# Altium schematic symbol library MotorDriver.SchLib: 25 symbols
Pins are listed as number, name and electrical type; pins without a type are passive.

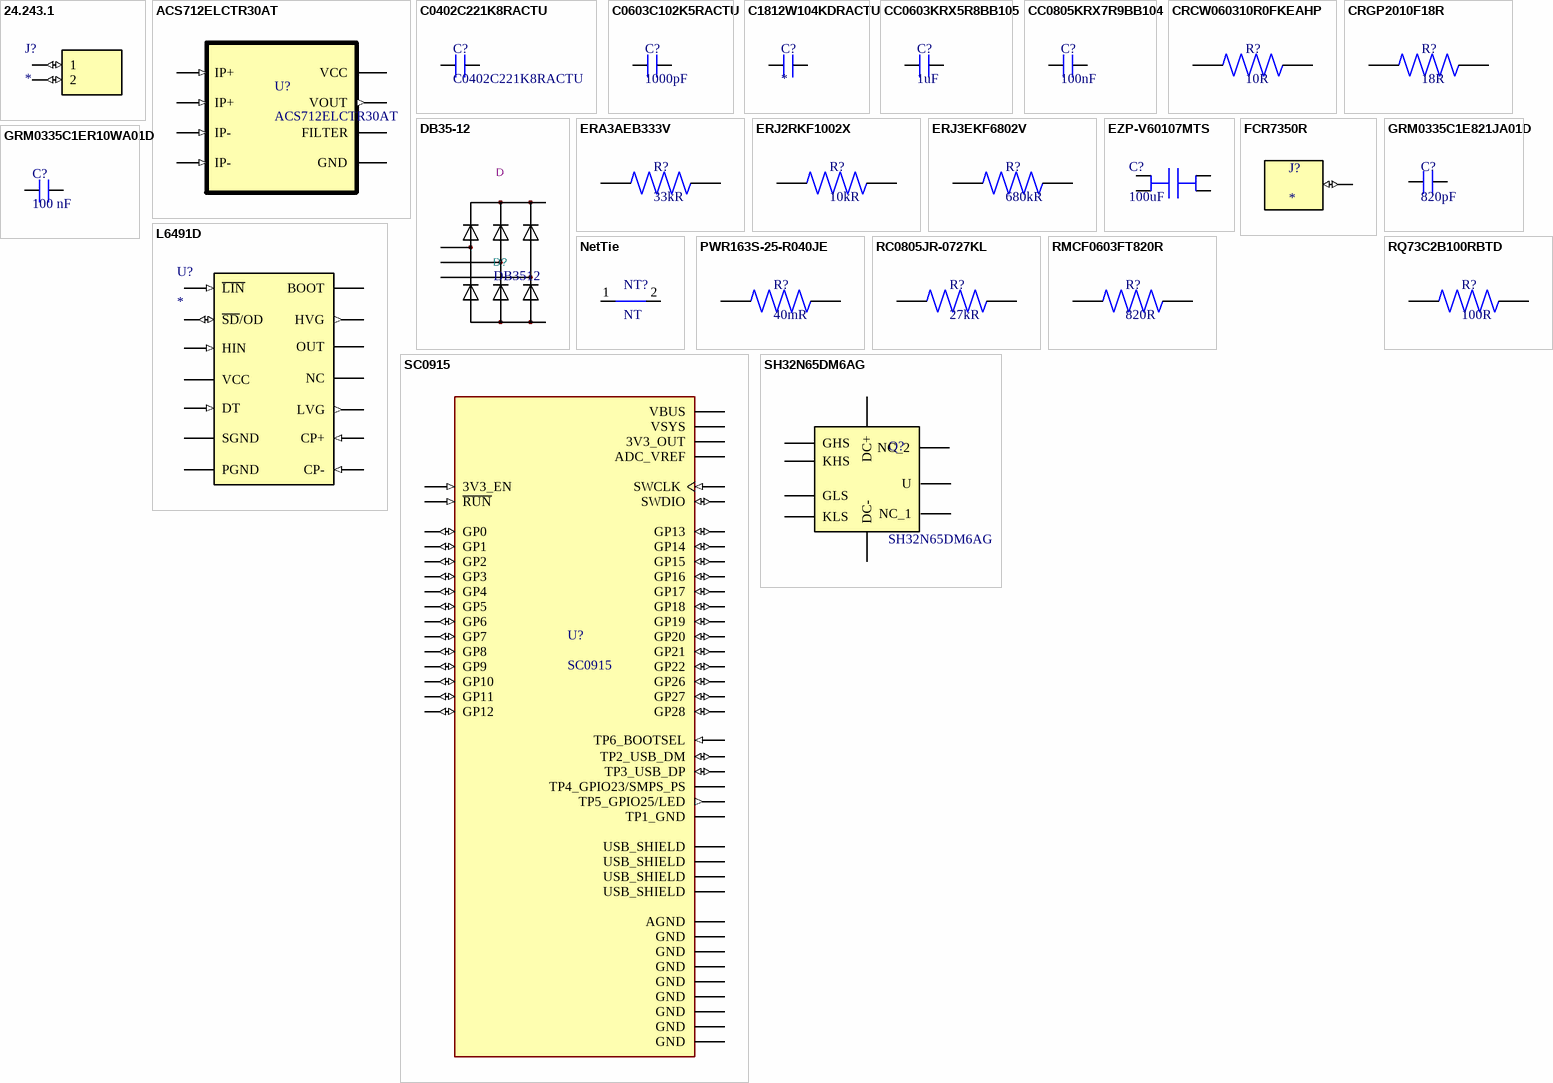
[diagram p0: symbols 24.243.1 to SH32N65DM6AG]

## 24.243.1
designator J?
Banana Socket, 20a, 4mm, Pcb, Red; MF: Multicomp; MP: 24.243.1; Check_prices: https://www.snapeda.com/parts/24.243.1/Multicomp/view-part/?ref=eda; Value: *; Availability: In Stock; Price: None; Package: None; SnapEDA_Link: https://www.snapeda.com/parts/24.243.1/Multicomp/view-part/?ref=snap
footprint 242431
pins: 1 (io), 2 (io)

## ACS712ELCTR30AT
designator U?
SENSOR CURRENT HALL 30A AC/DC; MP: ACS712ELCTR-30A-T; MF: Allegro; Price: None; Availability: In Stock; Package: SOIC-8 Allegro MicroSystems LLC; SnapEDA_Link: https://www.snapeda.com/parts/ACS712ELCTR-30A-T/Allegro+Industries/view-part/?ref=snap; Check_prices: https://www.snapeda.com/parts/ACS712ELCTR-30A-T/Allegro+Industries/view-part/?ref=eda; Value: *; Purchase-URL: https://pricing.snapeda.com/search/part/ACS712ELCTR-30A-T/?ref=eda
footprint currentsensor
pins: 1 IP+ (in), 2 IP+ (in), 3 IP- (in), 4 IP- (in), 5 GND (power), 6 FILTER, 7 VOUT (out), 8 VCC (power)

## C0402C221K8RACTU
designator C?
CAP CER 220PF 10V X7R 0402; MF: {'manufacturer': u'KEMET'}; Package: None; Price: None; Value: *; MP: C0402C221K8RACTU; Availability: Unavailable
footprint C0402C221K8RACTU
pins: 1, 2

## C0603C102K5RACTU
designator C?, comment 1000pF
CAP CER 1000PF 50V X7R 0603; MF: KEMET; MP: C0603C102K5RACTU; SnapEDA_Link: https://www.snapeda.com/parts/C0603C102K5RACTU/KEMET/view-part/319836/?ref=snap; Price: None; Availability: Unavailable; Value: *; Package: 0603 Kemet
footprint C0603C102K5RACTU
pins: 1, 2

## C1812W104KDRACTU
designator C?
CAP CER 0.1UF 1KV X7R 1812; MP: C1812W104KDRACTU; Package: None; Price: None; Value: *; Availability: Unavailable
footprint C1812W104KDRACTU
pins: 1, 2

## CC0603KRX5R8BB105
designator C?, comment 1uF
CAP CER 1UF 25V X5R 0603; MF: Yageo; MP: CC0603KRX5R8BB105; SnapEDA_Link: https://www.snapeda.com/parts/CC0603KRX5R8BB105/Yageo/view-part/1820893/?ref=snap; Package: 0603 Yageo; Price: None; Value: *; Availability: Unavailable
footprint CC0603KRX5R8BB105
pins: 1, 2

## CC0805KRX7R9BB104
designator C?, comment 100nF
CAP CER 0.1UF 50V X7R 0805; MF: Yageo; MP: CC0805KRX7R9BB104; Value: *; Availability: Unavailable; SnapEDA_Link: https://www.snapeda.com/parts/CC0805KRX7R9BB104/Yageo/view-part/105548/?ref=snap; Package: 0805 Yageo; Price: None
footprint CC0805KRX7R9BB104
pins: 1, 2

## CRCW060310R0FKEAHP
designator R?, comment 10R
RES SMD 10 OHM 1% 1/3W 0603; MP: CRCW060310R0FKEAHP; MF: Vishay Dale; Digi-Key_Part_Number: 541-10.0SCT-ND; Package: 1608 Vishay; SnapEDA_Link: https://www.snapeda.com/parts/CRCW060310R0FKEAHP/Vishay%20Dale/view-part/132114/?ref=snap; DigiKey-Purchase-URL: https://snapeda.com/shop?store=DigiKey&id=132114; Value: *
footprint CRCW060310R0FKEAHP
pins: 1, 2

## CRGP2010F18R
designator R?, comment 18R
RES 18 OHM 1% 1.25W 2010; MP: CRGP2010F18R; Package: None; Price: None; Value: *; Availability: Unavailable
footprint CRGP2010F18R
pins: 1, 2

## DB35-12
designator D?, comment DB3512  Reference: D
BRIDGE RECT 3P 1.2KV 35A DB-35; ki_keywords: Bridge 3 phase; ki_description: Bridge_3_phase; Datasheet: https://diotec.com/de/produktliste/B3.html
footprint 3PhaseBridge
pins: 1, 2, 3, 4 +, 5 -

## ERA3AEB333V
designator R?, comment 33kR
RES SMD 33K OHM 0.1% 1/10W 0603; MP: ERA3AEB333V; Package: None; Price: None; Availability: Unavailable; Value: *
footprint ERA-3AEB333V
pins: 1, 2

## ERJ2RKF1002X
designator R?, comment 10kR
RES SMD 10K OHM 1% 1/10W 0402; MF: Panasonic; MP: ERJ-2RKF1002X; Package: 1005-2 Panasonic; Price: None; Check_prices: https://www.snapeda.com/parts/ERJ-2RKF1002X/Panasonic%20Electronic%20Components/view-part/78636/?ref=eda; Value: *; SnapEDA_Link: https://www.snapeda.com/parts/ERJ-2RKF1002X/Panasonic%20Electronic%20Components/view-part/78636/?ref=snap; Availability: In Stock
footprint RES_ERJ2RKF1002X
pins: 1, 2

## ERJ3EKF6802V
designator R?, comment 680kR
RES SMD 68K OHM 1% 1/10W 0603; MP: ERJ3EKF6802V; Value: *; Availability: Unavailable; Price: None; Package: None
footprint ERJ-3EKF6802V
pins: 1, 2

## EZP-V60107MTS
designator C?, comment 100uF
CAP FILM 100UF 10% 600V RADIAL; Manufacturer_Name: Panasonic; Manufacturer_Part_Number: EZP-V60107MTS; Datasheet Link: http://industrial.panasonic.com/cdbs/www-data/pdf/RDL0000/RDL0000C251.pdf; Height: 52.5mm; Mouser Part Number: 667-EZP-V60107MTS; Mouser Price/Stock: https://www.mouser.co.uk/ProductDetail/Panasonic/EZP-V60107MTS?qs=OlC7AqGiEDk7%2FzfxM6wGiA%3D%3D
footprint EZPV60107MTS
pins: 1, 2, 3, 4

## FCR7350R
designator J?
Banana Jack Connector Standard Banana Solder Red; MF: Cliff; MP: FCR7350R; SnapEDA_Link: https://www.snapeda.com/parts/FCR7350R/Cliff+Electronics/view-part/?ref=snap; Package: None; Value: *; Check_prices: https://www.snapeda.com/parts/FCR7350R/Cliff+Electronics/view-part/?ref=eda
footprint FCR7350
pins: P$1 (io)

## GRM0335C1E821JA01D
designator C?, comment 820pF
CAP CER 820PF 25V C0G/NP0 0201; MF: Murata Electronics; MP: GRM0335C1E821JA01D; SnapEDA_Link: https://www.snapeda.com/parts/GRM0335C1E821JA01D/Murata+Electronics+North+America/view-part/?ref=snap; Package: 0603 Murata; Value: *; Check_prices: https://www.snapeda.com/parts/GRM0335C1E821JA01D/Murata+Electronics+North+America/view-part/?ref=eda
footprint GRM0335C1E821JA01D
pins: 1, 2

## GRM0335C1ER10WA01D
designator C?, comment 100 nF
CAP CER 0.1PF 25V C0G/NP0 0201; MP: GRM0335C1ER10WA01D; Package: None; Price: None; Availability: Unavailable; Value: *
footprint GRM0335C1ER10WA01D
pins: 1, 2

## L6491D
designator U?
IC GATE DRVR HALF-BRIDGE 14SO; Manufacturer_Name: STMicroelectronics; Manufacturer_Part_Number: L6491D; Datasheet Link: http://www.mouser.com/datasheet/2/389/l6491-974060.pdf; Height: 1.75mm; Mouser Part Number: 511-L6491D; Mouser Price/Stock: https://www.mouser.co.uk/ProductDetail/STMicroelectronics/L6491D?qs=WHlX%252B%252B9%2FRwCiXa20eeUAEg%3D%3D; Arrow Part Number: L6491D; Arrow Price/Stock: https://www.arrow.com/en/products/l6491d/stmicroelectronics?region=nac
footprint SOIC127P600X175-14N
pins: 1 ~{LIN} (in), 2 ~{SD}/OD (io), 3 HIN (in), 4 VCC (power), 5 DT (in), 6 SGND (power), 7 PGND (power), 8 LVG (out), 9 CP- (in), 10 CP+ (in), 11 NC, 12 OUT (power), 13 HVG (out), 14 BOOT (power)

## NetTie
designator NT?, comment NT  (net tie)
Net Tie
footprint NetTie
pins: 1, 2

## PWR163S-25-R040JE
designator R?, comment 40mR
RES 0.04 OHM 5% 25W DPAK; Manufacturer: Bourns; MP: PWR163S-25-R040JE; Package: None; Price: None; Value: *; Availability: Unavailable; Supplier: Arrow Electronics; Supplier Part Number: PWR163S-25-R040JE; Manufacturer Part Number: PWR163S-25-R040JE; RoHS: No; Category: Chip SMD Resistors; Pricing: 1000=1,752, 2000=1,735, 2500=1,719, 3000=1,703, 4000=1,686, 5000=1,67, 10000=1,656 (USD); ComponentLink1URL: https://datasheet.ciiva.com:443/pdfs/VipMasterIC/IC/BOUR/BOUR-S-A0002274294/BOUR-S-A0002274294-1.pdf?src-supplier=IHS+Markit; ComponentLink1Description: https://datasheet.ciiva.com:443/pdfs/VipMasterIC/IC/BOUR/BOUR-S-A0002274294/BOUR-S-A0002274294-1.pdf?src-supplier=IHS+Markit; ComponentLink2URL: https://datasheet.ciiva.com/29508/pwr163-29508342.pdf?src-supplier=Digikey; ComponentLink2Description: https://datasheet.ciiva.com/29508/pwr163-29508342.pdf?src-supplier=Digikey
footprint PWR163S-25-R040JE
pins: 1, 2

## RC0805JR-0727KL
designator R?, comment 27kR
RES 27K OHM 5% 1/8W 0805; Manufacturer: Bourns; MP: PWR163S-25-R040JE; Package: None; Price: None; Value: *; Availability: Unavailable; Supplier: Arrow Electronics; Supplier Part Number: PWR163S-25-R040JE; Manufacturer Part Number: PWR163S-25-R040JE; RoHS: No; Category: Chip SMD Resistors; Pricing: 1000=1,752, 2000=1,735, 2500=1,719, 3000=1,703, 4000=1,686, 5000=1,67, 10000=1,656 (USD); ComponentLink1URL: https://datasheet.ciiva.com:443/pdfs/VipMasterIC/IC/BOUR/BOUR-S-A0002274294/BOUR-S-A0002274294-1.pdf?src-supplier=IHS+Markit; ComponentLink1Description: https://datasheet.ciiva.com:443/pdfs/VipMasterIC/IC/BOUR/BOUR-S-A0002274294/BOUR-S-A0002274294-1.pdf?src-supplier=IHS+Markit; ComponentLink2URL: https://datasheet.ciiva.com/29508/pwr163-29508342.pdf?src-supplier=Digikey; ComponentLink2Description: https://datasheet.ciiva.com/29508/pwr163-29508342.pdf?src-supplier=Digikey
footprint RC0805JR-0727KL
pins: 1, 2

## RMCF0603FT820R
designator R?, comment 820R
RES 820 OHM 1% 1/10W 0603; MP: RMCF0603FT820R; MF: Stackpole Electronics Inc; Digi-Key_Part_Number: RMCF0603FT820RCT-ND; SnapEDA_Link: https://www.snapeda.com/parts/RMCF0603FT820R/Stackpole%20Electronics%20Inc/view-part/3955492/?ref=snap; DigiKey-Purchase-URL: https://snapeda.com/shop?store=DigiKey&id=3955492; Package: 1508 Stackpole; Value: *
footprint RMCF0603FT820R
pins: 1, 2

## RQ73C2B100RBTD
designator R?, comment 100R
RES 100 OHMS 0.1% 0.4W 1206; MP: RQ73C2B100RBTD; Package: None; Price: None; Value: *; Availability: Unavailable
footprint RQ73C2B100RBTD
pins: 1, 2

## SC0915
designator U?
RP2040 Raspberry Pi Pico - ARM® Cortex®-M0+ MCU 32-Bit Embedded Evaluation Board; SnapEDA_Link: https://www.snapeda.com/parts/SC0915/Raspberry+Pi/view-part/?ref=snap; Availability: In Stock; Package: None; Price: None; MP: SC0915; Check_prices: https://www.snapeda.com/parts/SC0915/Raspberry+Pi/view-part/?ref=eda; MF: Raspberry Pi; Value: *; Purchase-URL: https://pricing.snapeda.com/search/part/SC0915/?ref=eda
footprint MODULE_SC0915
pins: 1 GP0 (io), 2 GP1 (io), 3 GND (power), 4 GP2 (io), 5 GP3 (io), 6 GP4 (io), 7 GP5 (io), 8 GND (power), 9 GP6 (io), 10 GP7 (io), 11 GP8 (io), 12 GP9 (io), 13 GND (power), 14 GP10 (io), 15 GP11 (io), 16 GP12 (io), 17 GP13 (io), 18 GND (power), 19 GP14 (io), 20 GP15 (io), 21 GP16 (io), 22 GP17 (io), 23 GND (power), 24 GP18 (io), 25 GP19 (io), 26 GP20 (io), 27 GP21 (io), 28 GND (power), 29 GP22 (io), 30 ~{RUN} (in), 31 GP26 (io), 32 GP27 (io), 33 AGND (power), 34 GP28 (io), 35 ADC_VREF (power), 36 3V3_OUT (power), 37 3V3_EN (in), 38 GND (power), 39 VSYS (power), 40 VBUS (power), A USB_SHIELD (power), B USB_SHIELD (power), C USB_SHIELD (power), D USB_SHIELD (power), D1 SWCLK (in), D2 GND (power), D3 SWDIO (io), TP1 TP1_GND (power), TP2 TP2_USB_DM (io), TP3 TP3_USB_DP (io), TP4 TP4_GPIO23/SMPS_PS, TP5 TP5_GPIO25/LED (out), TP6 TP6_BOOTSEL (in)

## SH32N65DM6AG
designator Q?
MOSFET 2N-CH 650V 32A 9ACEPACK; Manufacturer_Name: STMicroelectronics; Geometry.Height: 5.75mm; Manufacturer_Part_Number: SH32N65DM6AG; Mouser Part Number: 511-SH32N65DM6AG; Mouser Price/Stock: https://www.mouser.co.uk/ProductDetail/STMicroelectronics/SH32N65DM6AG?qs=By6Nw2ByBD04Okf4gmqE1g%3D%3D; Arrow Part Number: *; Arrow Price/Stock: *; Datasheet Link: https://www.st.com/resource/en/datasheet/sh32n65dm6ag.pdf
footprint SH32N65DM6AG
pins: 1 GHS, 2 KHS, 3 NC_1, 4 NC_2, 5 KLS, 6 GLS, 7 U, 8 DC-, 9 DC+